# Altium schematic symbol library Schlib1.SchLib: 50 symbols (part 1 of 2)
Pins are listed as number, name and electrical type; pins without a type are passive.

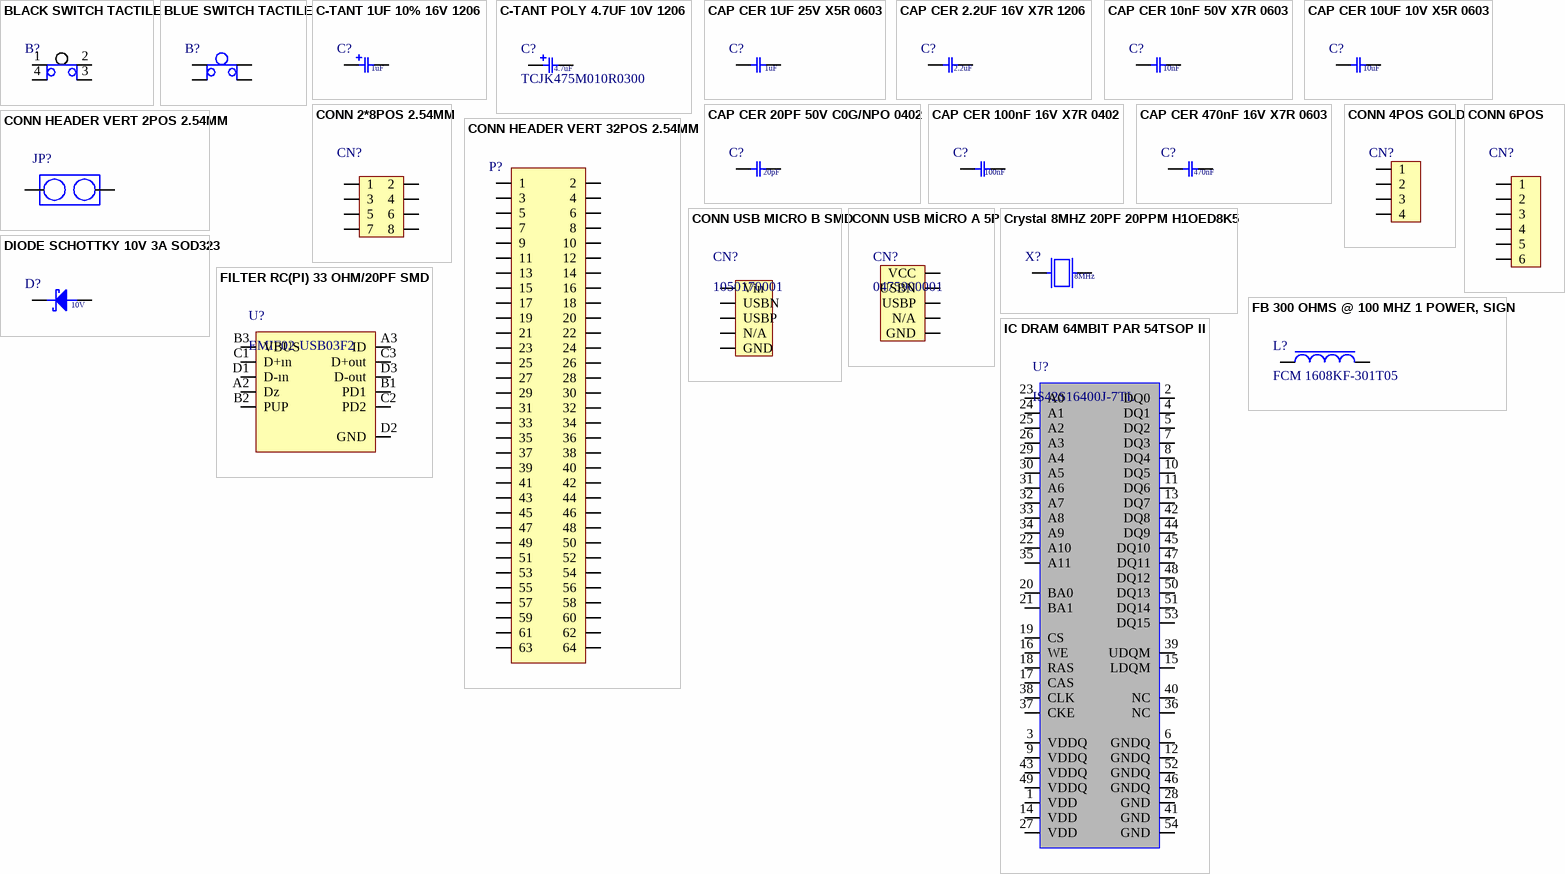
[diagram p0: symbols BLACK SWITCH TACTILE to IC DRAM 64MBIT PAR 54TSOP II]

## BLACK SWITCH TACTILE
designator B?, comment KSC321GLFS  (value not drawn)
Switch Tactile N.O. SPST Round Button Gull Wing 0.05A 32VDC 1VA 300000Cycles 1.7N SMD Automotive T/R; Manufacturer: ITT C&K; Supplier: Future Electronics; Supplier Part Number: 6485577; Manufacturer Part Number: KSC321GLFS; RoHS: Yes; Category: Tactile Switches; Stock: 10000; Pricing: 2000=0,28 (USD); ComponentLink1URL: https://datasheet.ciiva.com/26903/getdatasheetpartid-80827-26903733.pdf?src-supplier=Verical; ComponentLink1Description: https://datasheet.ciiva.com/26903/getdatasheetpartid-80827-26903733.pdf?src-supplier=Verical; ComponentLink2URL: https://datasheet.ciiva.com/16223/ksc321g20lfs-16223899.pdf?src-supplier=Future+Electronics; ComponentLink2Description: https://datasheet.ciiva.com/16223/ksc321g20lfs-16223899.pdf?src-supplier=Future+Electronics; ComponentLink3URL: https://datasheet.ciiva.com/30466/0900766b8129ca31-30466704.pdf?src-supplier=Rs; ComponentLink3Description: https://datasheet.ciiva.com/30466/0900766b8129ca31-30466704.pdf?src-supplier=Rs; ComponentLink4URL: https://datasheet.ciiva.com/2900/ksc-2900204.pdf?src-supplier=Digikey; ComponentLink4Description: https://datasheet.ciiva.com/2900/ksc-2900204.pdf?src-supplier=Digikey; ComponentLink5URL: https://datasheet.ciiva.com/2900/ksc-2900205.pdf?src-supplier=Digikey; ComponentLink5Description: https://datasheet.ciiva.com/2900/ksc-2900205.pdf?src-supplier=Digikey; ComponentLink6URL: https://datasheet.ciiva.com/2900/ksc-2900206.pdf?src-supplier=Digikey; ComponentLink6Description: https://datasheet.ciiva.com/2900/ksc-2900206.pdf?src-supplier=Digikey; ComponentLink7URL: https://datasheet.ciiva.com/16155/ksc-11mar10-16155558.pdf?src-supplier=Onlinecomponents.com; ComponentLink7Description: https://datasheet.ciiva.com/16155/ksc-11mar10-16155558.pdf?src-supplier=Onlinecomponents.com; ComponentLink8URL: https://datasheet.ciiva.com/46381/1707722-46381951.pdf?src-supplier=Element14; ComponentLink8Description: https://datasheet.ciiva.com/46381/1707722-46381951.pdf?src-supplier=Element14; ComponentLink9URL: https://datasheet.ciiva.com/7987/320569-7987016.pdf?src-supplier=Element14; ComponentLink9Description: https://datasheet.ciiva.com/7987/320569-7987016.pdf?src-supplier=Element14; Color: Black
footprint Black_Buttom
pins: 1, 2, 3, 4

## BLUE SWITCH TACTILE
designator B?, comment KSC721G LFS  (value not drawn)
Switch Tactile N.O. SPST Round Button Gull Wing 0.05A 32VDC 1VA 300000Cycle 1.7N SMD T/R; Manufacturer: ITT C&K; Supplier: Farnell; Supplier Part Number: 3464289; Manufacturer Part Number: KSC721GLFS; RoHS: Yes; Stock: 488; Pricing: 1=0,63, 10=0,59, 25=0,57, 50=0,54, 100=0,52, 250=0,47 (EUR); ComponentLink1URL: https://datasheet.ciiva.com/2900/ksc-2900329.pdf?src-supplier=Digikey; ComponentLink1Description: https://datasheet.ciiva.com/2900/ksc-2900329.pdf?src-supplier=Digikey; ComponentLink2URL: https://datasheet.ciiva.com/2900/ksc-2900330.pdf?src-supplier=Digikey; ComponentLink2Description: https://datasheet.ciiva.com/2900/ksc-2900330.pdf?src-supplier=Digikey; ComponentLink3URL: https://datasheet.ciiva.com/2900/ksc-2900331.pdf?src-supplier=Digikey; ComponentLink3Description: https://datasheet.ciiva.com/2900/ksc-2900331.pdf?src-supplier=Digikey; Color: B
footprint Blue_Button
pins: 1, 2, 3, 4

## C-TANT 1UF 10% 16V 1206
designator C?, comment value 1uF  (hidden comment: TAJA105K016RNJ)
Cap Tant Solid 1uF 16V A CASE 10%( 3.2 X 1.6 X 1.6mm) Inward L SMD 3216-18 11 Ohm 125C T/R; Manufacturer: Kyocera AVX; Dielectric Material: Tantalum; Tolerance: 20%; ESR (Equivalent Series Resistance): 11R; Leakage Current: 500nA; Dissipation Factor: 4%; Supplier: Avnet; Supplier Part Number: TAJA105K016RNJ; Manufacturer Part Number: TAJA105K016RNJ; RoHS: Yes; Category: Tantalum Capacitors; Stock: 104000; Pricing: 2000=0,15379 (USD); Mounting Technology: Surface Mount,PCB; Case/Package: 1206; Pins: 2; Case Code (Metric): 3216; Case Code (Imperial): 1206; Weight: 0.000571oz; Min Operating Temperature: -55°C; Max Operating Temperature: 125°C; Voltage Rating (DC): 16V; Voltage Rating: 16V; Packaging: Tape and Reel; Features: General Purpose; Series: TAJ; Termination: SMD/SMT; Voltage: 16V; Length: 3.2mm; Width: 1.6mm; Height: 1.6mm; Depth: 1.6mm; Lead Pitch: 1.1mm; Reach SVHC Compliant: No; RoHS Compliant: Yes; ComponentLink1URL: https://datasheet.ciiva.com/18710/taj-eng-18710647.pdf?src-supplier=Distrelec; ComponentLink1Description: https://datasheet.ciiva.com/18710/taj-eng-18710647.pdf?src-supplier=Distrelec; ComponentLink2URL: https://datasheet.ciiva.com/7832/taj-7832811.pdf?src-supplier=Element14; ComponentLink2Description: https://datasheet.ciiva.com/7832/taj-7832811.pdf?src-supplier=Element14; ComponentLink3URL: https://datasheet.ciiva.com/7832/taj-7832810.pdf?src-supplier=Element14; ComponentLink3Description: https://datasheet.ciiva.com/7832/taj-7832810.pdf?src-supplier=Element14; ComponentLink4URL: https://datasheet.ciiva.com/7832/1680476-7832431.pdf?src-supplier=Element14; ComponentLink4Description: https://datasheet.ciiva.com/7832/1680476-7832431.pdf?src-supplier=Element14; ComponentLink5URL: https://datasheet.ciiva.com/263/taj-263410.pdf?src-supplier=Digikey; ComponentLink5Description: https://datasheet.ciiva.com/263/taj-263410.pdf?src-supplier=Digikey; ComponentLink6URL: https://datasheet.ciiva.com/263/taj-263409.pdf?src-supplier=Digikey; ComponentLink6Description: https://datasheet.ciiva.com/263/taj-263409.pdf?src-supplier=Digikey; ComponentLink7URL: https://datasheet.ciiva.com/263/taj-263411.pdf?src-supplier=Digikey; ComponentLink7Description: https://datasheet.ciiva.com/263/taj-263411.pdf?src-supplier=Digikey; ComponentLink8URL: https://datasheet.ciiva.com/7832/1703059-7832429.pdf?src-supplier=Element14; ComponentLink8Description: https://datasheet.ciiva.com/7832/1703059-7832429.pdf?src-supplier=Element14; ComponentLink9URL: https://datasheet.ciiva.com/7832/1703059-7832430.pdf?src-supplier=Element14; ComponentLink9Description: https://datasheet.ciiva.com/7832/1703059-7832430.pdf?src-supplier=Element14
footprint CAP-TANT
pins: 1, 2

## C-TANT POLY 4.7UF 10V 1206
designator C?, comment TCJK475M010R0300  value 4.7uF
Cap Tant Polymer 4.7uF 10V K CASE 20% (3.2 x 1.6 x 1mm) SMD 300m Ohm 105°C T/R; Manufacturer: Kyocera AVX; Manufacturer Part Number: TCJK475M010R0300E; Supplier: Avnet; Supplier Part Number: TCJK475M010R0300E; RoHS: Yes; Pricing: 3000=0,72395 (USD)
footprint CAP-TANT
pins: 1, 2

## CAP CER 1UF 25V X5R 0603
designator C?, comment value 1uF  (hidden comment: CC0603KRX5R8BB105)
Multilayer Ceramic Capacitor, 1 uF, 25 V, ± 10%, X5R, 0603 [1608 Metric]; Manufacturer: Yageo; Material: 4241ConductorMaterial; Voltage Rating: 25V; Supplier: Future Electronics; Supplier Part Number: 5636071; Manufacturer Part Number: CC0603KRX5R8BB105; RoHS: Yes; Category: Ceramic Capacitors; Stock: 3696000; Pricing: 4000=0,0113, 16000=0,0107, 40000=0,0104, 100000=0,0101, 160000=0,0095 (USD); Mounting Technology: Surface Mount; Case/Package: 0603; Pins: 2; Case Code (Metric): 1608; Case Code (Imperial): 0603; Min Operating Temperature: -55°C; Max Operating Temperature: 85°C; Tolerance: 10%; Dielectric: X5R; Packaging: Tape and Reel; Termination: SMD/SMT; Series: CC; Construction: Flat; Voltage Rating (DC): 25V; Length: 1.6mm; Height: 0.8mm; Depth: 0.8mm; Radiation Hardening: No; Reach SVHC Compliant: No; RoHS Compliant: Yes; Halogen Free: 5694HalogenFree; Lead Free: 5697LeadFree; ComponentLink1URL: https://datasheet.ciiva.com/7978/1525783-7978171.pdf?src-supplier=Element14; ComponentLink1Description: https://datasheet.ciiva.com/7978/1525783-7978171.pdf?src-supplier=Element14; ComponentLink2URL: https://datasheet.ciiva.com/176/mlccorderingcode-176786.pdf?src-supplier=Digikey; ComponentLink2Description: https://datasheet.ciiva.com/176/mlccorderingcode-176786.pdf?src-supplier=Digikey; ComponentLink3URL: https://datasheet.ciiva.com/176/mlccorderingcode-176785.pdf?src-supplier=Digikey; ComponentLink3Description: https://datasheet.ciiva.com/176/mlccorderingcode-176785.pdf?src-supplier=Digikey; ComponentLink4URL: https://datasheet.ciiva.com/176/mlccorderingcode-176787.pdf?src-supplier=Digikey; ComponentLink4Description: https://datasheet.ciiva.com/176/mlccorderingcode-176787.pdf?src-supplier=Digikey; ComponentLink5URL: https://datasheet.ciiva.com/11586/upy-gphc-x5r-4v-to-50v-12-11586318.pdf?src-supplier=Avnet; ComponentLink5Description: https://datasheet.ciiva.com/11586/upy-gphc-x5r-4v-to-50v-12-11586318.pdf?src-supplier=Avnet
footprint CAP-0603
pins: 1, 2

## CAP CER 2.2UF 16V X7R 1206
designator C?, comment value 2.2uF  (hidden comment: CC1206KKX7R7BB225)
Surface Mount Ceramic Multilayer Capacitor 2.2uF 10% X7R 16V 1206 Blister T/R; Manufacturer: Yageo; Material: 4241ConductorMaterial; Supplier: Future Electronics; Supplier Part Number: 6606222; Manufacturer Part Number: CC1206KKX7R7BB225; RoHS: Yes; Category: Ceramic Capacitors; Stock: 141000; Pricing: 3000=0,0378, 9000=0,0363, 15000=0,0357, 30000=0,0348, 60000=0,0335 (USD); ComponentLink1URL: https://datasheet.ciiva.com/11788/0900766b80d84f1d-11788402.pdf?src-supplier=Rs; ComponentLink1Description: https://datasheet.ciiva.com/11788/0900766b80d84f1d-11788402.pdf?src-supplier=Rs; ComponentLink2URL: https://datasheet.ciiva.com/11466/upy-gphc-x7r-6-3v-to-50v-8-11466572.pdf?src-supplier=Avnet; ComponentLink2Description: https://datasheet.ciiva.com/11466/upy-gphc-x7r-6-3v-to-50v-8-11466572.pdf?src-supplier=Avnet; ComponentLink3URL: https://datasheet.ciiva.com/5425/upy-gphc-x7r-6-3v-to-50v-8-12304-5425499.pdf?src-supplier=Mouser; ComponentLink3Description: https://datasheet.ciiva.com/5425/upy-gphc-x7r-6-3v-to-50v-8-12304-5425499.pdf?src-supplier=Mouser
footprint CAP-1206
pins: 1, 2

## CAP CER 10nF 50V X7R 0603
designator C?, comment value 10nF  (hidden comment: CC0603KRX7R9BB103)
Multilayer Ceramic Capacitor, 0.01 uF, 50 V, ± 10%, X7R, 0603 [1608 Metric]; Manufacturer: Yageo; Voltage: 50V; Insulation Resistance: 100GR; Supplier: Future Electronics; Supplier Part Number: 4131256; Manufacturer Part Number: CC0603KRX7R9BB103; RoHS: Yes; Category: Ceramic Capacitors; Stock: 5740000; Pricing: 4000=0,0037, 16000=0,0032, 40000=0,0034, 80000=0,003, 120000=0,0033, 160000=0,0029, 500000=0,0031, 1200000=0,0029 (USD); Mounting Technology: Surface Mount; Case/Package: 0603; Pins: 2; Material: Ceramic; Case Code (Metric): 1608; Case Code (Imperial): 0603; Min Operating Temperature: -55°C; Max Operating Temperature: 125°C; Tolerance: 10%; Dielectric: X7R; Packaging: Tape and Reel; Voltage Rating: 50V; Voltage Rating (DC): 50V; Package Quantity: 1; Termination: SMD/SMT; Series: CC; Length: 1.6mm; Width: 0.031inch; Height: 0.8mm; Thickness: 0.035inch; Depth: 0.8mm; Radiation Hardening: No; RoHS Compliant: Yes; Reach SVHC Compliant: Unknown; Halogen Free: 5694HalogenFree; Lead Free: 5697LeadFree; ComponentLink1URL: https://datasheet.ciiva.com/11788/0900766b8079c870-11788374.pdf?src-supplier=Rs; ComponentLink1Description: https://datasheet.ciiva.com/11788/0900766b8079c870-11788374.pdf?src-supplier=Rs; ComponentLink2URL: https://datasheet.ciiva.com/26862/getdatasheetpartid-403582-26862846.pdf?src-supplier=Verical; ComponentLink2Description: https://datasheet.ciiva.com/26862/getdatasheetpartid-403582-26862846.pdf?src-supplier=Verical; ComponentLink3URL: https://datasheet.ciiva.com/8033/70765-8033817.pdf?src-supplier=Element14; ComponentLink3Description: https://datasheet.ciiva.com/8033/70765-8033817.pdf?src-supplier=Element14; ComponentLink4URL: https://datasheet.ciiva.com/28450/1489800-28450619.pdf?src-supplier=Element14; ComponentLink4Description: https://datasheet.ciiva.com/28450/1489800-28450619.pdf?src-supplier=Element14; ComponentLink5URL: https://datasheet.ciiva.com/176/mlccorderingcode-176550.pdf?src-supplier=Digikey; ComponentLink5Description: https://datasheet.ciiva.com/176/mlccorderingcode-176550.pdf?src-supplier=Digikey; ComponentLink6URL: https://datasheet.ciiva.com/176/mlccorderingcode-176552.pdf?src-supplier=Digikey; ComponentLink6Description: https://datasheet.ciiva.com/176/mlccorderingcode-176552.pdf?src-supplier=Digikey; ComponentLink7URL: https://datasheet.ciiva.com/8033/1734573-8033816.pdf?src-supplier=Element14; ComponentLink7Description: https://datasheet.ciiva.com/8033/1734573-8033816.pdf?src-supplier=Element14; ComponentLink8URL: https://datasheet.ciiva.com/8033/1734573-8033861.pdf?src-supplier=Element14; ComponentLink8Description: https://datasheet.ciiva.com/8033/1734573-8033861.pdf?src-supplier=Element14; ComponentLink9URL: https://datasheet.ciiva.com/176/mlccorderingcode-176551.pdf?src-supplier=Digikey; ComponentLink9Description: https://datasheet.ciiva.com/176/mlccorderingcode-176551.pdf?src-supplier=Digikey; ComponentLink10URL: https://datasheet.ciiva.com/13389/upy-gphc-x7r-6-3v-to-50v-8-13389991.pdf?src-supplier=Mouser; ComponentLink10Description: https://datasheet.ciiva.com/13389/upy-gphc-x7r-6-3v-to-50v-8-13389991.pdf?src-supplier=Mouser
footprint CAP-0603
pins: 1, 2

## CAP CER 10UF 10V X5R 0603
designator C?, comment value 10uF  (hidden comment: CL10A106KP8NNNC)
Multilayer Ceramic Capacitor, 10 uF, 10 V, ± 10%, X5R, 0603 [1608 Metric]; Manufacturer: Samsung; Voltage Rating: 10V; Supplier: Avnet; Supplier Part Number: CL10A106KP8NNNC; Manufacturer Part Number: CL10A106KP8NNNC; RoHS: Yes; Category: Ceramic Capacitors; Stock: 204000; Pricing: 4000=0,02306, 8000=0,02253, 16000=0,022, 24000=0,02147, 32000=0,02094 (USD); Mounting Technology: Surface Mount; Case/Package: 0603; Case Code (Metric): 1608; Case Code (Imperial): 0603; Material: Ceramic; Min Operating Temperature: -55°C; Max Operating Temperature: 85°C; Tolerance: 10%; Dielectric: X5R; Package Quantity: 1; Packaging: Tape and Reel; Voltage Rating (DC): 10V; Series: CL; Construction: Flat; Length: 1.6mm; Width: 0.031inch; Height: 0.8mm; Thickness: 0.035inch; Depth: 0.8mm; Radiation Hardening: No; Lead Free: Lead Free; RoHS Compliant: Yes; ComponentLink1URL: https://datasheet.ciiva.com/26877/getdatasheetpartid-359551-26877881.pdf?src-supplier=Verical; ComponentLink1Description: https://datasheet.ciiva.com/26877/getdatasheetpartid-359551-26877881.pdf?src-supplier=Verical; ComponentLink2URL: https://datasheet.ciiva.com/29198/457369-da-01-en-vs-kondensator-0603-29198790.pdf?src-supplier=Conrad; ComponentLink2Description: https://datasheet.ciiva.com/29198/457369-da-01-en-vs-kondensator-0603-29198790.pdf?src-supplier=Conrad; ComponentLink3URL: https://datasheet.ciiva.com/16200/cl05b104kq5nnnc-16200766.pdf?src-supplier=Future+Electronics; ComponentLink3Description: https://datasheet.ciiva.com/16200/cl05b104kq5nnnc-16200766.pdf?src-supplier=Future+Electronics
footprint CAP-0603
pins: 1, 2

## CAP CER 20PF 50V C0G/NPO 0402
designator C?, comment value 20pF  (hidden comment: CC0402JRNPO9BN200)
CAP CER 20PF 50V C0G/NPO 0402; Manufacturer: Yageo; Temperature Coefficient: 30ppm/°C; Supplier: Future Electronics; Supplier Part Number: 9739384; Manufacturer Part Number: CC0402JRNPO9BN200; RoHS: Yes; Category: Ceramic Capacitors; Stock: 60000; Pricing: 10000=0,0025, 40000=0,0023, 150000=0,0022, 300000=0,0022, 750000=0,002 (USD); Halogen Free: 5694HalogenFree; ComponentLink1URL: https://datasheet.ciiva.com/176/mlccorderingcode-176360.pdf?src-supplier=Digikey; ComponentLink1Description: https://datasheet.ciiva.com/176/mlccorderingcode-176360.pdf?src-supplier=Digikey; ComponentLink2URL: https://datasheet.ciiva.com/176/mlccorderingcode-176361.pdf?src-supplier=Digikey; ComponentLink2Description: https://datasheet.ciiva.com/176/mlccorderingcode-176361.pdf?src-supplier=Digikey; ComponentLink3URL: https://datasheet.ciiva.com/176/mlccorderingcode-176362.pdf?src-supplier=Digikey; ComponentLink3Description: https://datasheet.ciiva.com/176/mlccorderingcode-176362.pdf?src-supplier=Digikey; ComponentLink4URL: https://datasheet.ciiva.com/7656/1132289-7656614.pdf?src-supplier=Element14; ComponentLink4Description: https://datasheet.ciiva.com/7656/1132289-7656614.pdf?src-supplier=Element14; ComponentLink5URL: https://datasheet.ciiva.com/5427/upy-gp-np0-16v-to-50v-8-3714-5427769.pdf?src-supplier=Mouser; ComponentLink5Description: https://datasheet.ciiva.com/5427/upy-gp-np0-16v-to-50v-8-3714-5427769.pdf?src-supplier=Mouser
footprint CAP-0402
pins: 1, 2

## CAP CER 100nF 16V X7R 0402
designator C?, comment value 100nF  (hidden comment: CC0402KRX7R7BB104)
Multilayer Ceramic Capacitor, 0.1 uF, 25 V, ± 10%, X7R, 0402 [1005 Metric]; Manufacturer: Yageo; Material: 4241ConductorMaterial; Voltage Rating: 16V; Temperature Coefficient: 30ppm/°C; Supplier: Future Electronics; Supplier Part Number: 8517856; Manufacturer Part Number: CC0402KRX7R7BB104; RoHS: Yes; Category: Ceramic Capacitors; Stock: 30330000; Pricing: 10000=0,0028, 40000=0,0027, 150000=0,0025, 300000=0,0025, 750000=0,0023 (USD); Mounting Technology: Surface Mount; Case/Package: 0402; Pins: 2; Case Code (Metric): 1005; Case Code (Imperial): 0402; Min Operating Temperature: -55°C; Max Operating Temperature: 125°C; Tolerance: 10%; Dielectric: X7R; Voltage Rating (DC): 16V; Packaging: Tape and Reel; Package Quantity: 1; Termination: SMD/SMT; Voltage: 16V; Series: CC; Voltage Rating (AC): 16V; Length: 1mm; Width: 0.02inch; Height: 0.5mm; Thickness: 0.022inch; Depth: 0.5mm; Radiation Hardening: No; RoHS Compliant: Yes; Reach SVHC Compliant: No; Halogen Free: 5694HalogenFree; Lead Free: 5697LeadFree; ComponentLink1URL: https://datasheet.ciiva.com/11788/0900766b80ce67ed-11788364.pdf?src-supplier=Rs; ComponentLink1Description: https://datasheet.ciiva.com/11788/0900766b80ce67ed-11788364.pdf?src-supplier=Rs; ComponentLink2URL: https://datasheet.ciiva.com/7978/1489800-7978111.pdf?src-supplier=Element14; ComponentLink2Description: https://datasheet.ciiva.com/7978/1489800-7978111.pdf?src-supplier=Element14; ComponentLink3URL: https://datasheet.ciiva.com/161/mlccorderingcode-161545.pdf?src-supplier=Digikey; ComponentLink3Description: https://datasheet.ciiva.com/161/mlccorderingcode-161545.pdf?src-supplier=Digikey; ComponentLink4URL: https://datasheet.ciiva.com/161/mlccorderingcode-161544.pdf?src-supplier=Digikey; ComponentLink4Description: https://datasheet.ciiva.com/161/mlccorderingcode-161544.pdf?src-supplier=Digikey; ComponentLink5URL: https://datasheet.ciiva.com/161/mlccorderingcode-161546.pdf?src-supplier=Digikey; ComponentLink5Description: https://datasheet.ciiva.com/161/mlccorderingcode-161546.pdf?src-supplier=Digikey; ComponentLink6URL: https://datasheet.ciiva.com/8033/1734573-8033661.pdf?src-supplier=Element14; ComponentLink6Description: https://datasheet.ciiva.com/8033/1734573-8033661.pdf?src-supplier=Element14; ComponentLink7URL: https://datasheet.ciiva.com/11587/upy-gphc-x7r-6-3v-to-50v-8-11587305.pdf?src-supplier=Avnet; ComponentLink7Description: https://datasheet.ciiva.com/11587/upy-gphc-x7r-6-3v-to-50v-8-11587305.pdf?src-supplier=Avnet; ComponentLink8URL: https://datasheet.ciiva.com/28450/1489800-28450335.pdf?src-supplier=Element14; ComponentLink8Description: https://datasheet.ciiva.com/28450/1489800-28450335.pdf?src-supplier=Element14; ComponentLink9URL: https://datasheet.ciiva.com/13395/upy-gphc-x7r-6-3v-to-50v-8-13395676.pdf?src-supplier=Mouser; ComponentLink9Description: https://datasheet.ciiva.com/13395/upy-gphc-x7r-6-3v-to-50v-8-13395676.pdf?src-supplier=Mouser; ComponentLink10URL: https://datasheet.ciiva.com/8033/1734573-8033663.pdf?src-supplier=Element14; ComponentLink10Description: https://datasheet.ciiva.com/8033/1734573-8033663.pdf?src-supplier=Element14
footprint CAP-0402
pins: 1, 2

## CAP CER 470nF 16V X7R 0603
designator C?, comment value 470nF  (hidden comment: CC0603KRX7R7BB474)
Multilayer Ceramic Capacitor, 0.47 uF, 16 V, ± 10%, X7R, 0603 [1608 Metric]; Manufacturer: Yageo; Material: 4241ConductorMaterial; Supplier: Future Electronics; Supplier Part Number: 6653356; Manufacturer Part Number: CC0603KRX7R7BB474; RoHS: Yes; Category: Ceramic Capacitors; Stock: 68000; Pricing: 4000=0,0144, 12000=0,0139, 20000=0,0137, 80000=0,0131, 120000=0,0127 (USD); ComponentLink1URL: https://datasheet.ciiva.com/26862/getdatasheetpartid-403574-26862831.pdf?src-supplier=Verical; ComponentLink1Description: https://datasheet.ciiva.com/26862/getdatasheetpartid-403574-26862831.pdf?src-supplier=Verical; ComponentLink2URL: https://datasheet.ciiva.com/176/mlccorderingcode-176901.pdf?src-supplier=Digikey; ComponentLink2Description: https://datasheet.ciiva.com/176/mlccorderingcode-176901.pdf?src-supplier=Digikey; ComponentLink3URL: https://datasheet.ciiva.com/176/mlccorderingcode-176902.pdf?src-supplier=Digikey; ComponentLink3Description: https://datasheet.ciiva.com/176/mlccorderingcode-176902.pdf?src-supplier=Digikey; ComponentLink4URL: https://datasheet.ciiva.com/176/mlccorderingcode-176903.pdf?src-supplier=Digikey; ComponentLink4Description: https://datasheet.ciiva.com/176/mlccorderingcode-176903.pdf?src-supplier=Digikey; ComponentLink5URL: https://datasheet.ciiva.com/28450/1489800-28450569.pdf?src-supplier=Element14; ComponentLink5Description: https://datasheet.ciiva.com/28450/1489800-28450569.pdf?src-supplier=Element14
footprint CAP-0603
pins: 1, 2

## CONN 2*8POS 2.54MM
designator CN?, comment SSM-104-L-DH  (value not drawn)
Connector Socket Strip SKT 8 POS 2.54mm Solder RA SMD; Manufacturer: Samtec; Supplier: Mouser; Supplier Part Number: 200-SSM104LDH; Manufacturer Part Number: SSM-104-L-DH; RoHS: Yes; Category: Connectors; Stock: 39; Pricing: 1=3,24, 10=3,24, 50=3,24, 100=3,24, 1000=1,99, 10000=1,12 (USD); ComponentLink1URL: https://datasheet.ciiva.com/25617/0900766b81159465-25617452.pdf?src-supplier=Rs; ComponentLink1Description: https://datasheet.ciiva.com/25617/0900766b81159465-25617452.pdf?src-supplier=Rs; ComponentLink2URL: https://datasheet.ciiva.com/746/ssm-1xx-xxx-xx-xx-xx-x-xx-xx-mkt-746592.pdf?src-supplier=Digikey; ComponentLink2Description: https://datasheet.ciiva.com/746/ssm-1xx-xxx-xx-xx-xx-x-xx-xx-mkt-746592.pdf?src-supplier=Digikey
footprint CONN-2*8
pins: 1, 2, 3, 4, 5, 6, 7, 8

## CONN 4POS GOLD
designator CN?, comment 61300411121  (value not drawn)
THT Vertical Pin Header WR-PHD, Pitch 2.54 mm, Single Row, 4 pins; Manufacturer: Wurth Electronics; Number of Positions: 4; Operating Supply Voltage: 250V; Contact Resistance: 20mR; Current Rating: 3A; Gender: 29Gender; Pitch: 0.1inch; Supplier: Farnell; Supplier Part Number: 2356155; Manufacturer Part Number: 61300411121; RoHS: Yes; Category: Headers and Wire Housings; Stock: 4500; Pricing: 100=0,103, 500=0,096, 1000=0,089, 2500=0,087, 5000=0,085, 10000=0,083 (EUR); Mounting Technology: Through Hole; Contact Plating: Gold; Contact Material: Copper; Color: Black; Min Operating Temperature: -40°C; Max Operating Temperature: 105°C; Number of Rows: 1; Packaging: Bulk; Termination: Solder; Number of Contacts: 4; Series: WR-PHD; Contact Type: Male Pin; Orientation: 5495OrientationType; Voltage Rating: 250V; Height: 8.89mm; Contact Mating Length: 0.236inch; RoHS Compliant: Yes; Reach SVHC Compliant: Unknown; Lead Free: 5697LeadFree; ComponentLink1URL: http://www.farnell.com/cad/1737268.pdf?src-supplier=Element14; ComponentLink1Description: http://www.farnell.com/cad/1737268.pdf?src-supplier=Element14; ComponentLink2URL: https://datasheet.octopart.com/61300411121-W%C3%BCrth-Elektronik-datasheet-21154836.pdf?src-supplier=Element14; ComponentLink2Description: https://datasheet.octopart.com/61300411121-W%C3%BCrth-Elektronik-datasheet-21154836.pdf?src-supplier=Element14; ComponentLink3URL: https://katalog.we-online.de/em/datasheet/6130xx11121.pdf?src-supplier=Digikey; ComponentLink3Description: https://katalog.we-online.de/em/datasheet/6130xx11121.pdf?src-supplier=Digikey
footprint CONN-4POS
pins: 1, 2, 3, 4

## CONN 6POS
designator CN?, comment TS-106-G-A  (value not drawn)
Conn Unshrouded Header HDR 6 POS 2.54mm Solder ST Top Entry Thru-Hole Tube; Manufacturer: Samtec; Supplier: Mouser; Supplier Part Number: 200-TS106GA; Manufacturer Part Number: TS-106-G-A; RoHS: Yes; Category: Connectors; Stock: 123; Pricing: 1=1,86, 10=1,86, 50=1,86, 100=1,86, 1000=1,14, 10000=0,67 (USD); ComponentLink1URL: https://datasheet.ciiva.com/25618/0900766b8115cecc-25618092.pdf?src-supplier=Rs; ComponentLink1Description: https://datasheet.ciiva.com/25618/0900766b8115cecc-25618092.pdf?src-supplier=Rs; ComponentLink2URL: https://datasheet.ciiva.com/410/tx-1xx-x-x-mkt1-410231.pdf?src-supplier=Digikey; ComponentLink2Description: https://datasheet.ciiva.com/410/tx-1xx-x-x-mkt1-410231.pdf?src-supplier=Digikey; ComponentLink3URL: https://datasheet.ciiva.com/22677/1843794-22677736.pdf?src-supplier=Element14; ComponentLink3Description: https://datasheet.ciiva.com/22677/1843794-22677736.pdf?src-supplier=Element14
footprint CONN-6POS
pins: 1, 2, 3, 4, 5, 6

## CONN HEADER VERT 2POS 2.54MM
designator JP?, comment 61300211121  (value not drawn)
THT Vertical Pin Header WR-PHD, Pitch 2.54 mm, Single Row, 2 pins; Manufacturer: Wurth Electronics; Current Rating: 3A; Voltage Rating: 250V; Number of Positions: 2; Gender: 29Gender; Contact Resistance: 20mR; Pitch: 0.1inch; Supplier: Farnell; Supplier Part Number: 2356153; Manufacturer Part Number: 61300211121; RoHS: Yes; Category: Headers and Wire Housings; Stock: 158275; Pricing: 100=0,074, 500=0,067, 1000=0,061, 2500=0,06, 5000=0,059, 10000=0,057 (EUR); Mounting Technology: Through Hole; Contact Plating: Gold; Housing Material: PBT; Contact Material: Copper Alloy,Copper; Color: Black; Min Operating Temperature: -40°C; Max Operating Temperature: 125°C; Number of Rows: 1; Contact Gender: Male; Packaging: Bulk; Termination: Through Hole; Number of Contacts: 2; Series: WR-PHD; Contact Type: Male Pin; Operating Supply Voltage: 250V; Orientation: 5495OrientationType; Height: 8.94mm; Contact Mating Length: 0.236inch; RoHS Compliant: Yes; Reach SVHC Compliant: Unknown; Lead Free: 5697LeadFree; ComponentLink1URL: https://datasheet.ciiva.com/13619/6130xx11121-48870-13619345.pdf?src-supplier=Mouser; ComponentLink1Description: https://datasheet.ciiva.com/13619/6130xx11121-48870-13619345.pdf?src-supplier=Mouser
footprint CONN-2PİNS
pins: 1, 2

## CONN HEADER VERT 32POS 2.54MM
designator P?, comment TSW-132-24-T-D  (value not drawn)
Headers & Wire Housings Classic PCB Header Strips, 0.100 pitch; Manufacturer: Wurth Electronics; Manufacturer Part Number: 61303221121; Operating Supply Voltage: 250V; Contact Resistance: 20mR; Current Rating: 3A; Gender: 29Gender; Supplier: Farnell; Supplier Part Number: 2356145; RoHS: Yes; Category: Connectors; Stock: 745; Pricing: 1=1,75, 10=0,941, 100=0,855, 500=0,778, 1000=0,762, 2500=0,747 (EUR); Orientation: 5495OrientationType; ComponentLink1URL: https://datasheet.ciiva.com/28505/1442180-28505766.pdf?src-supplier=Element14; ComponentLink1Description: https://datasheet.ciiva.com/28505/1442180-28505766.pdf?src-supplier=Element14; ComponentLink2URL: https://datasheet.ciiva.com/48557/htsw-th-48557319.pdf?src-supplier=Avnet; ComponentLink2Description: https://datasheet.ciiva.com/48557/htsw-th-48557319.pdf?src-supplier=Avnet
footprint CONN-2*32POS
pins: 1, 2, 3, 4, 5, 6, 7, 8, 9, 10, 11, 12, 13, 14, 15, 16, 17, 18, 19, 20, 21, 22, 23, 24, 25, 26, 27, 28, 29, 30, 31, 32, 33, 34, 35, 36, 37, 38, 39, 40, 41, 42, 43, 44, 45, 46, 47, 48, 49, 50, 51, 52, 53, 54, 55, 56, 57, 58, 59, 60, 61, 62, 63, 64

## CONN USB MICRO B SMD
designator CN?, comment 1050170001
Conn Micro USB 2.0 Type B RCP 5 POS 0.65mm Solder RA SMD 5 Terminal 1 Port Micro-USB T/R; Manufacturer: Molex; Plating: 157ConductorMaterial; Gender: Receptacle; Current Rating: 1.8A; Number of Ports: 1; Number of Contacts: 5; Max Voltage Rating (AC): 30V; USB Standard: USB 2.0; Supplier: Mouser; Supplier Part Number: 538-105017-0001; Manufacturer Part Number: 1050170001; RoHS: Yes; Category: USB Connectors; Stock: 51934; Pricing: 1=0,86, 10=0,736, 50=0,736, 100=0,67, 1000=0,555, 10000=0,495 (USD); Mounting Technology: Surface Mount; Contact Plating: Gold; Contact Material: Copper Alloy,Copper; Housing Material: Polymer; Min Operating Temperature: -30°C; Max Operating Temperature: 85°C; Packaging: Tape and Reel; Termination: Solder; Connector Type: USB; Voltage Rating: 30V; Number of Positions: 5; Orientation: Right Angle; Number of Circuits: 5; Series: 105017; Number of Rows: 1NUMBER; Length: 8.2mm; Pitch: 0.65mm; Depth: 7.5mm; RoHS Compliant: Yes; Reach SVHC Compliant: Unknown; Halogen Free: 5696HalogenFree; ComponentLink1URL: https://datasheet.ciiva.com/3094/1050170001-io-connectors-3094416.pdf?src-supplier=Avnet; ComponentLink1Description: https://datasheet.ciiva.com/3094/1050170001-io-connectors-3094416.pdf?src-supplier=Avnet; ComponentLink2URL: https://datasheet.ciiva.com/4598/1050170001-io-connectors-152207-4598759.pdf?src-supplier=Mouser; ComponentLink2Description: https://datasheet.ciiva.com/4598/1050170001-io-connectors-152207-4598759.pdf?src-supplier=Mouser; ComponentLink3URL: https://datasheet.ciiva.com/851/1050170001-sd-851276.pdf?src-supplier=Digikey; ComponentLink3Description: https://datasheet.ciiva.com/851/1050170001-sd-851276.pdf?src-supplier=Digikey; ComponentLink4URL: https://datasheet.ciiva.com/851/1050170001-sd-851277.pdf?src-supplier=Digikey; ComponentLink4Description: https://datasheet.ciiva.com/851/1050170001-sd-851277.pdf?src-supplier=Digikey; ComponentLink5URL: https://datasheet.ciiva.com/851/1050170001-sd-851278.pdf?src-supplier=Digikey; ComponentLink5Description: https://datasheet.ciiva.com/851/1050170001-sd-851278.pdf?src-supplier=Digikey; ComponentLink6URL: https://datasheet.ciiva.com/16668/1050170001-io-connectors-16668598.pdf?; ComponentLink6Description: https://datasheet.ciiva.com/16668/1050170001-io-connectors-16668598.pdf?
footprint USB MİCRO B
pins: 1 Vin, 2 USBN, 3 USBP, 4 N/A, 5 GND

## CONN USB MİCRO A 5P
designator CN?, comment 0475900001
USB Connector, 5 Contact(s), Female, Right Angle, Surface Mount Terminal, Locking, Receptacle; Manufacturer: Molex; Manufacturer Part Number: 47590-0001; Plating: 157ConductorMaterial; Supplier: Mouser; Supplier Part Number: 538-47590-0001; RoHS: Yes; Category: USB Connectors; Stock: 13739; Pricing: 1=0,79, 10=0,699, 50=0,699, 100=0,582, 1000=0,53, 10000=0,421 (USD)
footprint USB MİCRO A
pins: 1 VCC, 2 USBN, 3 USBP, 4 N/A, 5 GND

## Crystal 8MHZ 20PF 20PPM H1OED8K5
designator X?, comment Frequency: 8MHz  (hidden comment: H1OED8K5SC-112YXC-8M)
HC-49US 8MHZ 20PF 20PPM H1OED8K5; Manufacturer: YXC; Equivalent Series Resistance: 60OHMs; ComponentLink1Description: Datasheet; ComponentLink1URL: https://mm.digikey.com/Volume0/opasdata/d220001/medias/docus/4129/HC-49US_Dip.pdf; Series: HC-49US; Frequency Stability: 20ppm; Load Capacitance: 20pF; Mounting Type: Through Hole; Height-Size-Dimension: 0.145" (3.68mm)-0.453" L x 0.177" W (11.50mm x 4.50mm)
footprint HC-49US
pins: 1, 2

## DIODE SCHOTTKY 10V 3A SOD323
designator D?, comment Peak Voltage: 10V  (hidden comment: BAT60JFILM)
Rectifier Diode, Schottky, 1 Phase, 1 Element, 3A, 10V V(RRM), Silicon; Manufacturer: STMicroelectronics; Supplier: Mouser; Supplier Part Number: 511-BAT60JFILM; Manufacturer Part Number: BAT60JFILM; RoHS: Yes; Category: Rectifier Diodes; Stock: 21401; Pricing: 1=0,34, 10=0,237, 50=0,237, 100=0,104, 1000=0,076, 10000=0,054 (USD); ComponentLink1URL: https://datasheet.ciiva.com/4714/cd00001944-96586-4714681.pdf?src-supplier=Mouser; ComponentLink1Description: https://datasheet.ciiva.com/4714/cd00001944-96586-4714681.pdf?src-supplier=Mouser; ComponentLink2URL: https://datasheet.ciiva.com/1200/1689728-1200741.pdf?src-supplier=Farnell; ComponentLink2Description: https://datasheet.ciiva.com/1200/1689728-1200741.pdf?src-supplier=Farnell; ComponentLink3URL: https://datasheet.ciiva.com/17078/bat60jfilm-17078717.pdf?src-supplier=Allied+Electronics; ComponentLink3Description: https://datasheet.ciiva.com/17078/bat60jfilm-17078717.pdf?src-supplier=Allied+Electronics; ComponentLink4URL: https://datasheet.ciiva.com/23916/cd00001944-23916545.pdf?src-supplier=Newark; ComponentLink4Description: https://datasheet.ciiva.com/23916/cd00001944-23916545.pdf?src-supplier=Newark; ComponentLink5URL: https://datasheet.ciiva.com/15144/getdatasheetpartid-91415-15144683.pdf?src-supplier=Verical; ComponentLink5Description: https://datasheet.ciiva.com/15144/getdatasheetpartid-91415-15144683.pdf?src-supplier=Verical; ComponentLink6URL: https://datasheet.ciiva.com/915/cd00001944-915607.pdf?src-supplier=Digikey; ComponentLink6Description: https://datasheet.ciiva.com/915/cd00001944-915607.pdf?src-supplier=Digikey; ComponentLink7URL: https://datasheet.ciiva.com/915/cd00001944-915608.pdf?src-supplier=Digikey; ComponentLink7Description: https://datasheet.ciiva.com/915/cd00001944-915608.pdf?src-supplier=Digikey; ComponentLink8URL: https://datasheet.ciiva.com/915/cd00001944-915609.pdf?src-supplier=Digikey; ComponentLink8Description: https://datasheet.ciiva.com/915/cd00001944-915609.pdf?src-supplier=Digikey
footprint SOD-323
pins: 1, 2

## FB 300 OHMS @ 100 MHZ 1 POWER, SIGN
designator L?, comment FCM 1608KF-301T05
500mA 1 350mΩ 300Ω@100MHz ±25% 0603 Ferrite Beads ROHS; Manufacturer: Tai Tech; Supplier: Digikey; Supplier Part Number: 4816-FCM1608KF-301T05CT-ND; Manufacturer Part Number: FCM1608KF-301T05; RoHS: No; Category: Ferrite Beads and Chips; Stock: 6740; Pricing: 1=0,1, 10=0,025, 25=0,0224, 50=0,0202, 100=0,0182, 250=0,01332, 500=0,0097, 1000=0,00949 (USD)
footprint FB-0603
pins: 1, 2

## FILTER RC(PI) 33 OHM/20PF SMD
designator U?, comment EMIF02-USB03F2
2-line EMI filter and ESD protection with R pull-up for USB interfaces; Manufacturer: STMicroelectronics; Supplier: Mouser; Supplier Part Number: 511-EMIF02-USB03F2; Manufacturer Part Number: EMIF02-USB03F2; RoHS: Yes; Category: EMI / RFI Components; Stock: 31970; Pricing: 1=0,45, 10=0,436, 50=0,344, 100=0,319, 1000=0,263, 10000=0,244 (USD); ComponentLink1URL: https://datasheet.ciiva.com/12394/cd00042880-211729-12394966.pdf?src-supplier=Mouser; ComponentLink1Description: https://datasheet.ciiva.com/12394/cd00042880-211729-12394966.pdf?src-supplier=Mouser; ComponentLink2URL: https://datasheet.ciiva.com/3068/cd00042880-3068450.pdf?src-supplier=Avnet; ComponentLink2Description: https://datasheet.ciiva.com/3068/cd00042880-3068450.pdf?src-supplier=Avnet
footprint Flip-Chip-11
pins: A2 Dz, A3 ID, B1 PD1, B2 PUP, B3 VBUS, C1 D+ın, C2 PD2, C3 D+out, D1 D-ın, D2 GND, D3 D-out

## IC DRAM 64MBIT PAR 54TSOP II
designator U?, comment IS42S16400J-7TL
PTC Resettable Fuse 2A(hold) 4A(trip) 16VDC 100A 1.5W 4.5s 0.035Ohm SMD Solder Pad 7.98 X 5.44 X 0.9mm T/R; Manufacturer: Bel; Manufacturer Part Number: 0ZCF0200AF2C; Time to Trip: 5s; Voltage Rating: 24V; Supplier: Mouser; Supplier Part Number: 530-0ZCF0200AF2C; RoHS: Yes; Category: PTC Resettable Fuses; Stock: 47794; Pricing: 1=0,27, 10=0,222, 50=0,222, 100=0,198, 1000=0,166, 10000=0,113 (USD); Mounting Technology: Surface Mount; Case/Package: 448Case; Case Code (Metric): 7351; Case Code (Imperial): 2920; Min Operating Temperature: -40°C; Max Operating Temperature: 85°C; Packaging: Cut Tape; Series: 0ZCF; Max Current Rating: 100A; Hold Current: 2A; Trip Current: 4A; Current Rating: 100A; Height: 800um; RoHS Compliant: Yes; Lead Free: Lead Free; ComponentLink1URL: https://datasheet.ciiva.com/18550/0zcf-18550655.pdf?src-supplier=Digikey; ComponentLink1Description: https://datasheet.ciiva.com/18550/0zcf-18550655.pdf?src-supplier=Digikey
footprint 54-TSOP
pins: 1 VDD, 2 DQ0, 3 VDDQ, 4 DQ1, 5 DQ2, 6 GNDQ, 7 DQ3, 8 DQ4, 9 VDDQ, 10 DQ5, 11 DQ6, 12 GNDQ, 13 DQ7, 14 VDD, 15 LDQM, 16 WE, 17 CAS, 18 RAS, 19 CS, 20 BA0, 21 BA1, 22 A10, 23 A0, 24 A1, 25 A2, 26 A3, 27 VDD, 28 GND, 29 A4, 30 A5, 31 A6, 32 A7, 33 A8, 34 A9, 35 A11, 36 NC, 37 CKE, 38 CLK, 39 UDQM, 40 NC, 41 GND, 42 DQ8, 43 VDDQ, 44 DQ9, 45 DQ10, 46 GNDQ, 47 DQ11, 48 DQ12, 49 VDDQ, 50 DQ13, 51 DQ14, 52 GNDQ, 53 DQ15, 54 GND

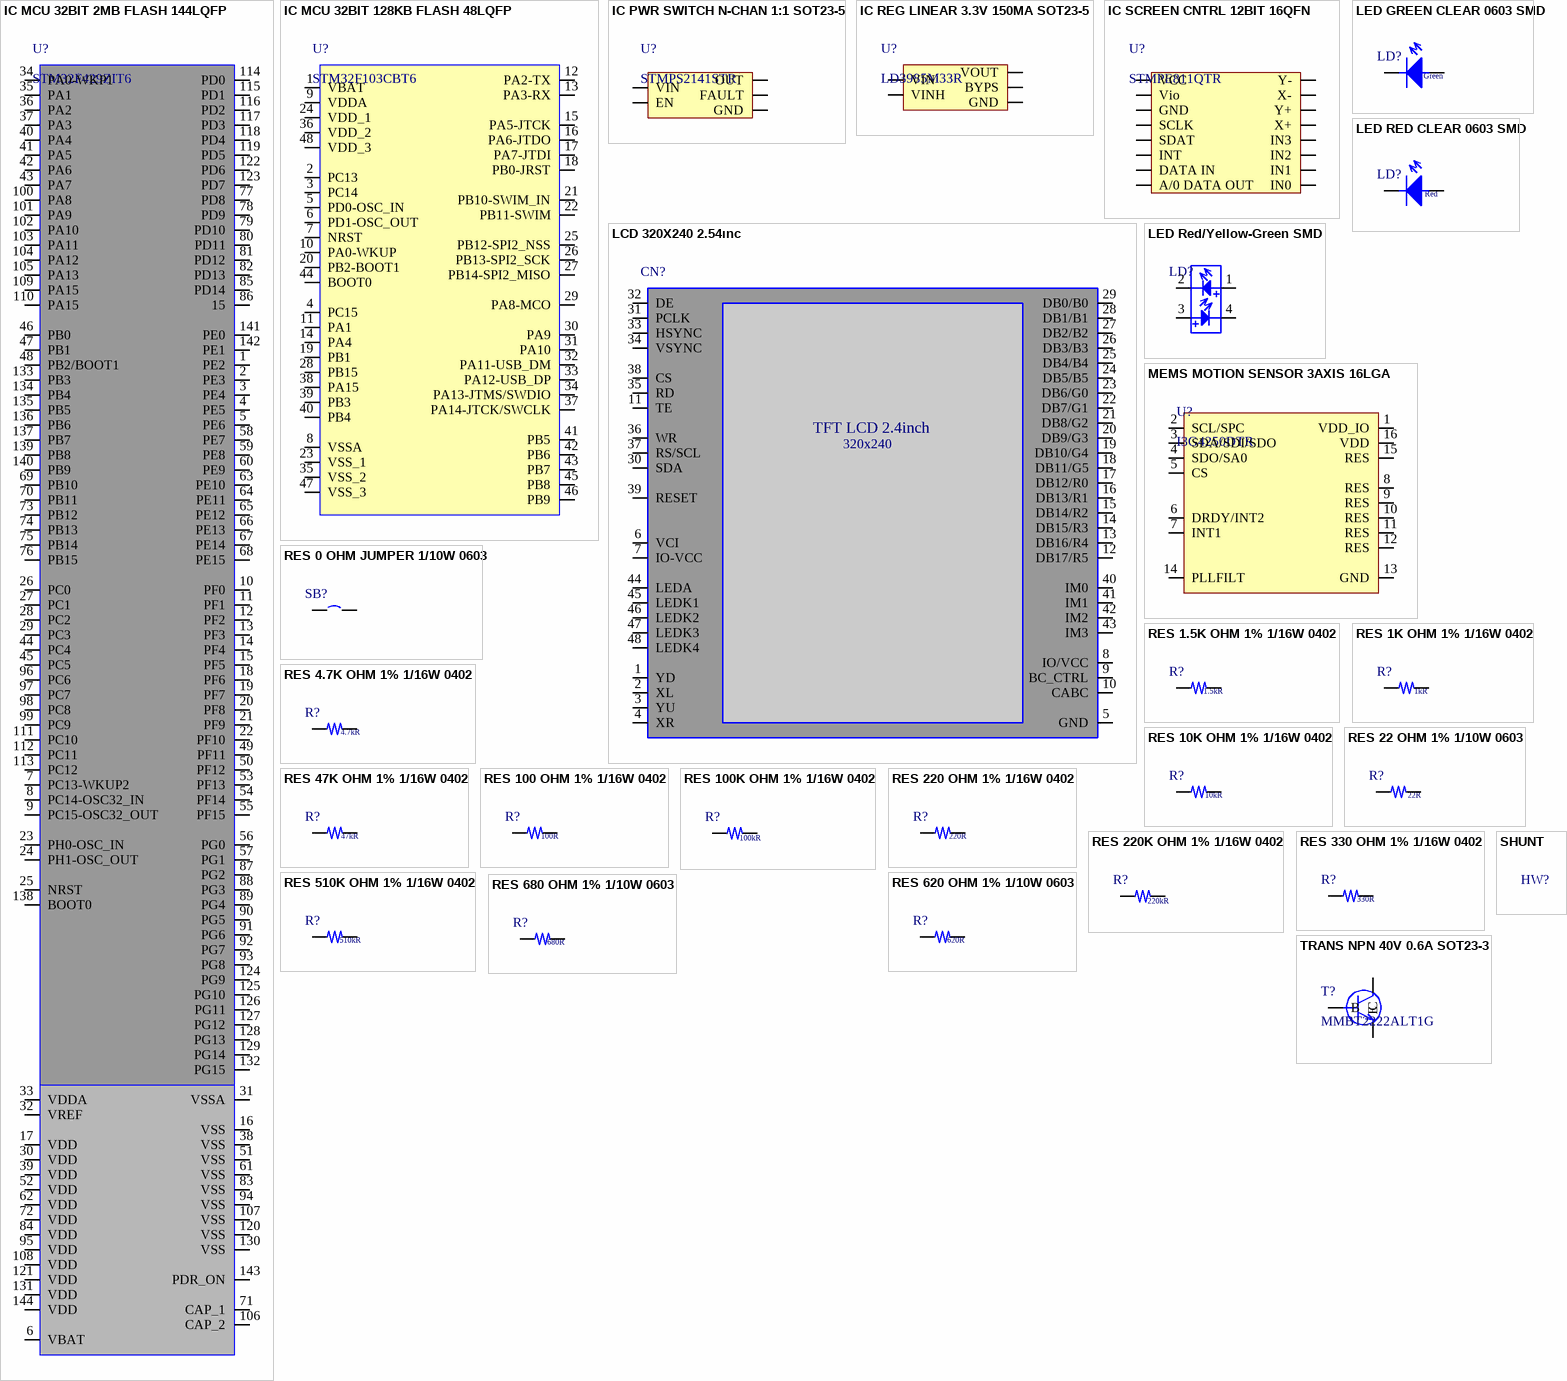
[diagram p1: symbols IC MCU 32BIT 2MB FLASH 144LQFP to TRANS NPN 40V 0.6A SOT23-3]

## IC MCU 32BIT 2MB FLASH 144LQFP
designator U?, comment STM32F429ZIT6
RISC Microcontroller, 32-Bit, FLASH, CORTEX-M4F CPU, 180MHz, CMOS, PQFP144; Manufacturer: STMicroelectronics; Density: 2MB; Nominal Supply Current: 1.7uA; Number of A/D Converters: 3NUMBER; Number of Channels: 24NUMBER; Number of D/A Converters: 2NUMBER; Supplier: Mouser; Supplier Part Number: 511-STM32F429ZIT6; Manufacturer Part Number: STM32F429ZIT6; RoHS: Yes; Category: Microcontrollers; Stock: 1510; Pricing: 1=18,06, 10=16,6, 50=15,92, 100=14,02, 1000=12,47, 10000=12,47 (USD); ComponentLink1URL: https://datasheet.ciiva.com/28647/1818195-28647943.pdf?src-supplier=Element14; ComponentLink1Description: https://datasheet.ciiva.com/28647/1818195-28647943.pdf?src-supplier=Element14; ComponentLink2URL: https://datasheet.ciiva.com/29987/dm00071990-29987273.pdf?src-supplier=Avnet; ComponentLink2Description: https://datasheet.ciiva.com/29987/dm00071990-29987273.pdf?src-supplier=Avnet; ComponentLink3URL: https://datasheet.ciiva.com/29722/dm00053488-29722151.pdf?src-supplier=Digikey; ComponentLink3Description: https://datasheet.ciiva.com/29722/dm00053488-29722151.pdf?src-supplier=Digikey
footprint LQFP-144
pins: 1 PE2, 2 PE3, 3 PE4, 4 PE5, 5 PE6, 6 VBAT, 7 PC13-WKUP2, 8 PC14-OSC32_IN, 9 PC15-OSC32_OUT, 10 PF0, 11 PF1, 12 PF2, 13 PF3, 14 PF4, 15 PF5, 16 VSS, 17 VDD, 18 PF6, 19 PF7, 20 PF8, 21 PF9, 22 PF10, 23 PH0-OSC_IN, 24 PH1-OSC_OUT, 25 NRST, 26 PC0, 27 PC1, 28 PC2, 29 PC3, 30 VDD, 31 VSSA, 32 VREF, 33 VDDA, 34 PA0-WKP1, 35 PA1, 36 PA2, 37 PA3, 38 VSS, 39 VDD, 40 PA4, 41 PA5, 42 PA6, 43 PA7, 44 PC4, 45 PC5, 46 PB0, 47 PB1, 48 PB2/BOOT1, 49 PF11, 50 PF12, 51 VSS, 52 VDD, 53 PF13, 54 PF14, 55 PF15, 56 PG0, 57 PG1, 58 PE7, 59 PE8, 60 PE9, 61 VSS, 62 VDD, 63 PE10, 64 PE11, 65 PE12, 66 PE13, 67 PE14, 68 PE15, 69 PB10, 70 PB11, 71 CAP_1, 72 VDD, 73 PB12, 74 PB13, 75 PB14, 76 PB15, 77 PD8, 78 PD9, 79 PD10, 80 PD11, 81 PD12, 82 PD13, 83 VSS, 84 VDD, 85 PD14, 86 15, 87 PG2, 88 PG3, 89 PG4, 90 PG5, 91 PG6, 92 PG7, 93 PG8, 94 VSS, 95 VDD, 96 PC6, 97 PC7, 98 PC8, 99 PC9, 100 PA8, 101 PA9, 102 PA10, 103 PA11, 104 PA12, 105 PA13, 106 CAP_2, 107 VSS, 108 VDD, 109 PA15, 110 PA15, 111 PC10, 112 PC11, 113 PC12, 114 PD0, 115 PD1, 116 PD2, 117 PD3, 118 PD4, 119 PD5, 120 VSS, 121 VDD, 122 PD6, 123 PD7, 124 PG9, 125 PG10, 126 PG11, 127 PG12, 128 PG13, 129 PG14, 130 VSS, 131 VDD, 132 PG15, 133 PB3, 134 PB4, 135 PB5, 136 PB6, 137 PB7, 138 BOOT0, 139 PB8, 140 PB9, 141 PE0, 142 PE1, 143 PDR_ON, 144 VDD

## IC MCU 32BIT 128KB FLASH 48LQFP
designator U?, comment STM32F103CBT6
ARM Cortex-M3 STM32 F1 Microcontroller 32-Bit 72MHz 128kB FLASH LQFP48 STM32F103CBT6; Manufacturer: STMicroelectronics; RAM Size: 20KB; Max Power Dissipation: 363mW; Interface: I2C,SPI,USB,CAN,IrDA,UART,USART,LIN; Number of I/Os: 37; Number of Timers/Counters: 4; Max Supply Voltage: 3.6V; Number of PWM Channels: 12; Number of ADC Channels: 10; Min Supply Voltage: 2V; Oscillator Type: Internal; Data Bus Width: 32b; Number of Bits: 32; Number of SPI Channels: 2; Watchdog Timer: Yes; Peripherals: POR,PWM,WDT,DMA,Temp Sensor,I2C; Supplier: Mouser; Supplier Part Number: 511-STM32F103CBT6; Manufacturer Part Number: STM32F103CBT6; RoHS: Yes; Category: Microcontrollers; Stock: 5952; Pricing: 1=7,04, 10=6,36, 50=5,27, 100=5,27, 1000=4, 10000=3,92 (USD); Case/Package: LQFP; Pins: 48; Min Operating Temperature: -40°C; Max Operating Temperature: 85°C; Frequency: 72MHz; Package Quantity: 250; Density: 128KB; Packaging: Tray; Number of Programmable I/O: 37; Clock Frequency: 72MHz; Number of I2C Channels: 2; Memory Format: FLASH; Termination: SMD/SMT; Address Bus Width: 32b; Memory Size: 128KB; Core Architecture: ARM; Series: STM32 F1; Length: 7mm; Width: 7.2mm; Height: 1.45mm; Radiation Hardening: No; Reach SVHC Compliant: No; Lead Free: Lead Free; RoHS Compliant: Yes; ComponentLink1URL: https://datasheet.ciiva.com/23669/1714663-23669200.pdf?src-supplier=Newark; ComponentLink1Description: https://datasheet.ciiva.com/23669/1714663-23669200.pdf?src-supplier=Newark; ComponentLink2URL: https://datasheet.ciiva.com/15122/getdatasheetpartid-92132-15122195.pdf?src-supplier=Verical; ComponentLink2Description: https://datasheet.ciiva.com/15122/getdatasheetpartid-92132-15122195.pdf?src-supplier=Verical; ComponentLink3URL: https://datasheet.ciiva.com/5752/cd00161566-5752838.pdf?src-supplier=Farnell; ComponentLink3Description: https://datasheet.ciiva.com/5752/cd00161566-5752838.pdf?src-supplier=Farnell; ComponentLink4URL: https://datasheet.ciiva.com/14100/pustm-arm-microcont-stm32f103-en-14100509.pdf?src-supplier=Distrelec; ComponentLink4Description: https://datasheet.ciiva.com/14100/pustm-arm-microcont-stm32f103-en-14100509.pdf?src-supplier=Distrelec; ComponentLink5URL: https://datasheet.ciiva.com/1502/cd00161566-1502328.pdf?src-supplier=Digikey; ComponentLink5Description: https://datasheet.ciiva.com/1502/cd00161566-1502328.pdf?src-supplier=Digikey; ComponentLink6URL: https://datasheet.ciiva.com/4840/cd00161566-4840398.pdf?src-supplier=Mouser; ComponentLink6Description: https://datasheet.ciiva.com/4840/cd00161566-4840398.pdf?src-supplier=Mouser; ComponentLink7URL: https://datasheet.ciiva.com/16219/cd00161566-16219150.pdf?src-supplier=Future+Electronics; ComponentLink7Description: https://datasheet.ciiva.com/16219/cd00161566-16219150.pdf?src-supplier=Future+Electronics
footprint LQFP-48
pins: 1 VBAT, 2 PC13, 3 PC14, 4 PC15, 5 PD0-OSC_IN, 6 PD1-OSC_OUT, 7 NRST, 8 VSSA, 9 VDDA, 10 PA0-WKUP, 11 PA1, 12 PA2-TX, 13 PA3-RX, 14 PA4, 15 PA5-JTCK, 16 PA6-JTDO, 17 PA7-JTDI, 18 PB0-JRST, 19 PB1, 20 PB2-BOOT1, 21 PB10-SWIM_IN, 22 PB11-SWIM, 23 VSS_1, 24 VDD_1, 25 PB12-SPI2_NSS, 26 PB13-SPI2_SCK, 27 PB14-SPI2_MISO, 28 PB15, 29 PA8-MCO, 30 PA9, 31 PA10, 32 PA11-USB_DM, 33 PA12-USB_DP, 34 PA13-JTMS/SWDIO, 35 VSS_2, 36 VDD_2, 37 PA14-JTCK/SWCLK, 38 PA15, 39 PB3, 40 PB4, 41 PB5, 42 PB6, 43 PB7, 44 BOOT0, 45 PB8, 46 PB9, 47 VSS_3, 48 VDD_3

## IC PWR SWITCH N-CHAN 1:1 SOT23-5
designator U?, comment STMPS2141STR
STMPS Series 1 Channel 5.5 V 500 mA 200 mOhm High Side Power Switch - SOT-23-5; Manufacturer: STMicroelectronics; Drain to Source Resistance: 90mR; Max Supply Voltage: 5.5V; Min Supply Voltage: 2.7V; Nominal Supply Voltage: 5V; Number of Channels: 1NUMBER; Value: 120mR; Supplier: Mouser; Supplier Part Number: 511-STMPS2141STR; Manufacturer Part Number: STMPS2141STR; RoHS: Yes; Category: Hot Swap Controllers; Stock: 65022; Pricing: 1=1,32, 10=1,18, 50=1,08, 100=0,91, 1000=0,562, 10000=0,497 (USD); Output Voltage: 5V; ComponentLink1URL: https://datasheet.ciiva.com/15108/getdatasheetpartid-160072-15108990.pdf?src-supplier=Verical; ComponentLink1Description: https://datasheet.ciiva.com/15108/getdatasheetpartid-160072-15108990.pdf?src-supplier=Verical; ComponentLink2URL: https://datasheet.ciiva.com/4923/cd00167470-4923447.pdf?src-supplier=Mouser; ComponentLink2Description: https://datasheet.ciiva.com/4923/cd00167470-4923447.pdf?src-supplier=Mouser; ComponentLink3URL: https://datasheet.ciiva.com/1962/cd00167470-1962472.pdf?src-supplier=Digikey; ComponentLink3Description: https://datasheet.ciiva.com/1962/cd00167470-1962472.pdf?src-supplier=Digikey; ComponentLink4URL: https://datasheet.ciiva.com/1962/cd00167470-1962473.pdf?src-supplier=Digikey; ComponentLink4Description: https://datasheet.ciiva.com/1962/cd00167470-1962473.pdf?src-supplier=Digikey; ComponentLink5URL: https://datasheet.ciiva.com/1962/cd00167470-1962474.pdf?src-supplier=Digikey; ComponentLink5Description: https://datasheet.ciiva.com/1962/cd00167470-1962474.pdf?src-supplier=Digikey; ComponentLink6URL: https://datasheet.ciiva.com/16491/cd00167470-16491245.pdf?src-supplier=Future+Electronics; ComponentLink6Description: https://datasheet.ciiva.com/16491/cd00167470-16491245.pdf?src-supplier=Future+Electronics
footprint SOT23-5L
pins: 1 OUT, 2 GND, 3 FAULT, 4 EN, 5 VIN

## IC REG LINEAR 3.3V 150MA SOT23-5
designator U?, comment LD3985M33R
LD3985 Series 150 mA 3.3 V Fixed Low Noise LDO BiCMOS Regulator-SOT-23-5; Manufacturer: STMicroelectronics; Min Input Voltage: 2.5V; Number of Outputs: 1; Max Supply Voltage: 6V; Output Voltage: 3.3V; Polarity: Positive; Quiescent Current: 150uA; Dropout Voltage: 400uV; Output Current: 150mA; Input Bias Current: 85uA; Max Supply Current: 250uA; Power Supply Rejection Ratio (PSRR): 50dB; Number of Channels: 1NUMBER; Supplier: Mouser; Supplier Part Number: 511-LD3985M33R; Manufacturer Part Number: LD3985M33R; RoHS: Yes; Category: Voltage Regulators - Linear; Stock: 69742; Pricing: 1=0,89, 10=0,793, 50=0,753, 100=0,618, 1000=0,403, 10000=0,343 (USD); Mounting Technology: Surface Mount; Case/Package: SOT-23-5; Pins: 5; Weight: 0.000222oz; Min Operating Temperature: -40°C; Max Operating Temperature: 125°C; Output Type: Fixed; Packaging: Cut Tape; Package Quantity: 3000; Number of Regulators: 1; Min Output Voltage: 3.3V; Series: -; Output Configuration: Positive; Min Supply Voltage: 2.5V; Length: 3mm; Width: 1.75mm; Height: 1.3mm; Lead Free: Lead Free; RoHS Compliant: Yes; ComponentLink1URL: https://datasheet.ciiva.com/41440/001185181-da-01-en-ic-reg-ldo-3-3v-ld3985m33r-sot-23-5-stm-41440289.pdf?src-supplier=Conrad; ComponentLink1Description: https://datasheet.ciiva.com/41440/001185181-da-01-en-ic-reg-ldo-3-3v-ld3985m33r-sot-23-5-stm-41440289.pdf?src-supplier=Conrad; ComponentLink2URL: https://datasheet.ciiva.com/2042/cd00003395-2042199.pdf?src-supplier=Digikey; ComponentLink2Description: https://datasheet.ciiva.com/2042/cd00003395-2042199.pdf?src-supplier=Digikey; ComponentLink3URL: https://datasheet.ciiva.com/2042/cd00003395-2042198.pdf?src-supplier=Digikey; ComponentLink3Description: https://datasheet.ciiva.com/2042/cd00003395-2042198.pdf?src-supplier=Digikey; ComponentLink4URL: https://datasheet.ciiva.com/2042/cd00003395-2042200.pdf?src-supplier=Digikey; ComponentLink4Description: https://datasheet.ciiva.com/2042/cd00003395-2042200.pdf?src-supplier=Digikey
footprint SOT23-5L
pins: 1 VIN, 2 GND, 3 VINH, 4 BYPS, 5 VOUT

## IC SCREEN CNTRL 12BIT 16QFN
designator U?, comment STMPE811QTR
S-Touch® advanced resistive touchscreen controller with 8-bit GPIO expander; Manufacturer: STMicroelectronics; Supplier: Future Electronics; Supplier Part Number: 5046233; Manufacturer Part Number: STMPE811QTR; RoHS: Yes; Category: Touch Screen Controllers; Pricing: 4000=2,12 (USD); ComponentLink1URL: https://datasheet.ciiva.com/4826/cd00186725-116780-4826797.pdf?src-supplier=Mouser; ComponentLink1Description: https://datasheet.ciiva.com/4826/cd00186725-116780-4826797.pdf?src-supplier=Mouser
footprint QFN16
pins: 1 Y-, 2 INT, 3 A/0 DATA OUT, 4 SCLK, 5 SDAT, 6 VCC, 7 DATA IN, 8 IN0, 9 IN1, 10 GND, 11 IN2, 12 IN3, 13 X+, 14 Vio, 15 Y+, 16 X-

## LCD 320X240 2.54ınc
designator CN?, comment FRD240C48003-B  (value not drawn)
Interface: SPI/MCU/SPI_RGB; Min Power supply voltage: 0.3V; Max Power supply voltage: 4.6V; High Temperature Storage: 70 ℃, 48 hrs; Low Temperature Storage: -20 ℃, 48 hrs; Screen Size: 2.4inch; Resolution: 240 × RGB ×320; Active Area: 36.72*48.96 mm; ComponentLink1Description: DataSheet; ComponentLink1URL: https://community.st.com/ysqtg83639/attachments/ysqtg83639/mcu-touch-gfx-gui-forum/1401/1/FRIDA_LCD_FRD240C48003-B.pdf; Outline Dimension: 42.72*60.26*3.55 mm
footprint LED 2.54 inch
pins: 1 YD, 2 XL, 3 YU, 4 XR, 5 GND, 6 VCI, 7 IO-VCC, 8 IO/VCC, 9 BC_CTRL, 10 CABC, 11 TE, 12 DB17/R5, 13 DB16/R4, 14 DB15/R3, 15 DB14/R2, 16 DB13/R1, 17 DB12/R0, 18 DB11/G5, 19 DB10/G4, 20 DB9/G3, 21 DB8/G2, 22 DB7/G1, 23 DB6/G0, 24 DB5/B5, 25 DB4/B4, 26 DB3/B3, 27 DB2/B2, 28 DB1/B1, 29 DB0/B0, 30 SDA, 31 PCLK, 32 DE, 33 HSYNC, 34 VSYNC, 35 RD, 36 WR, 37 RS/SCL, 38 CS, 39 RESET, 40 IM0, 41 IM1, 42 IM2, 43 IM3, 44 LEDA, 45 LEDK1, 46 LEDK2, 47 LEDK3, 48 LEDK4
text: TFT LCD 2.4inch; 320x240

## LED GREEN CLEAR 0603 SMD
designator LD?, comment Color: Green  (hidden comment: 150060VS75000)
WURTH ELEKTRONIK - 150060VS75000 - LED, Green, SMD, 0603, 30 mA, 2 V, 570 nm; Manufacturer: Wurth Electronics; Lens Color: Colorless; Luminous Intensity: 40mcd; Viewing Angle: 140°; Forward Voltage: 2V; Lens Style: Rectangular,Flat; Forward Current: 20mA; Dominant Wavelength: 570nm; Lens Transparency: Clear; Power Rating: 72mW; Reverse Voltage (DC): 5V; Lens Size: 0.7mm; Supplier: Farnell; Supplier Part Number: 2322073; Manufacturer Part Number: 150060VS75000; RoHS: Yes; Category: LEDs; Stock: 2968; Pricing: 5=0,164, 10=0,147, 100=0,121, 500=0,11, 1000=0,108 (EUR); Mounting Technology: Surface Mount; Case/Package: 0603; Pins: 2; Case Code (Metric): 1608; Case Code (Imperial): 0603; Weight: 0.000882oz; Min Operating Temperature: -40°C; Max Operating Temperature: 85°C; Package Quantity: 4000; Packaging: Cut Tape; Test Current: 20mA; Illumination Color: Green; Series: WL-SMCW; Max Reverse Voltage (DC): 5V; Power Dissipation: 72mW; Reverse Voltage: 5V; Length: 1.6mm; Width: 0.8mm; Height: 0.8mm; RoHS Compliant: Yes; Reach SVHC Compliant: 4187SVHC; ComponentLink1URL: https://datasheet.ciiva.com/29562/150060vs75000-29562919.pdf?src-supplier=Digikey; ComponentLink1Description: https://datasheet.ciiva.com/29562/150060vs75000-29562919.pdf?src-supplier=Digikey
footprint LED-GREEN-0603
pins: 1, 2